# Altium schematic symbol library TZ03R300F169B00.SchLib: 1 symbol
Pins are listed as number, name and electrical type; pins without a type are passive.

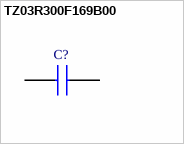
[diagram p0: symbol TZ03R300F169B00]

## TZ03R300F169B00
designator C?
Murata 5.2  30pF 100 V Ceramic Trimmer Capacitor, 0  +50% tolerance; Manufacturer_Name: Murata Electronics; Manufacturer_Part_Number: TZ03R300F169B00; Mouser Part Number: 81-TZ03R300F169B00; Mouser Price/Stock: https://www.mouser.co.uk/ProductDetail/Murata-Electronics/TZ03R300F169B00?qs=8zleBc79i9%2Fgm%252B7vT2dRPQ%3D%3D; Arrow Part Number: *; Arrow Price/Stock: *; Mouser Testing Part Number: *; Mouser Testing Price/Stock: *; Datasheet Link: http://www.farnell.com/datasheets/1814121.pdf
footprint TZ03(B)
pins: 1 +, 2 -